# Altium footprint library custom.PcbLib: 6 footprints
Each footprint in its own frame and in the unit in brackets; x right, y up, seen from the top. Pads: shape width x height; smd on the part's side, far side on the other; paste and mask are expansions set on the pad; w line width, h text height; cw(c..) or ccw(c..) is an arc to the next point about the centre after c.
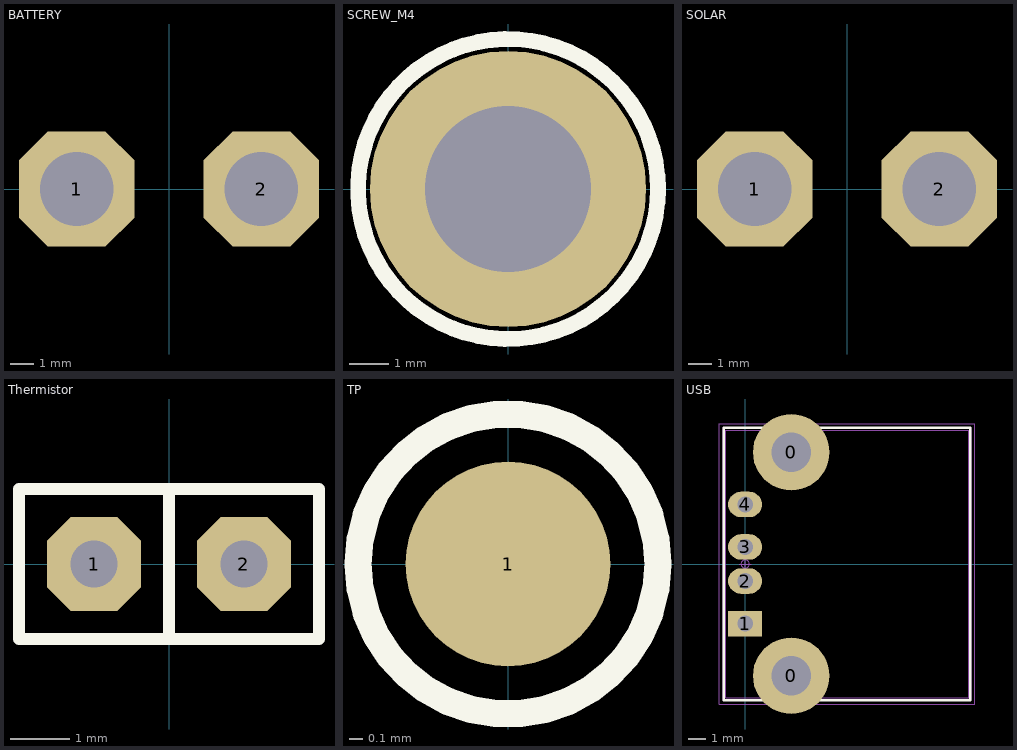
[diagram p0: the footprints below, top view; thin cyan lines are the x and y axes]

## BATTERY [mm]
pads (2):
  oct 5x5 hole 3.2: 1(-4,0) 2(4,0)

## SCREW_M4 [mm]
pads (1):
  round 7 hole 4.2: ""(0,0)
Top Overlay:
  circle w0.4: c0,0 r3.8

## SOLAR [mm]
pads (2):
  oct 5x5 hole 3.2: 1(-4,0) 2(4,0)

## Thermistor [mm]
pads (2):
  oct 1.6x1.6 hole 0.8: 1(-1.27,0) 2(1.27,0)
Top Overlay:
  lines w0.2: 0,-1.27 2.54,-1.27 2.54,1.27 0,1.27 ; 0,-1.27 -2.54,-1.27 -2.54,1.27 0,1.27 ; 0,-1.27 0,1.27

## TP [mm]
pads (1):
  round 1.5 smd: 1(0,0)
Top Overlay:
  circle w0.2: c0,0 r1.1

## USB [mm]
pads (6):
  round 4.5 hole 2.3 paste-1.67: 0(2.71,-6.57) 0(2.71,6.57)
  rect 2x1.5 hole 0.92 paste-1.67: 1(0,-3.5)
  oval 2x1.5 hole 0.92 paste-1.67: 2(0,-1) 3(0,1) 4(0,3.5)
Top Overlay:
  lines w0.15: -1.27,-8 -1.27,8 13.25,8 13.25,-8 -1.27,-8
Mechanical 11:
  lines w0.12: -1.27,-8 -1.27,8 13.25,8 13.25,-8 -1.27,-8
Mechanical 12:
  lines w0.025: -1.15,-7.85 -1.15,7.85 13.15,7.85 13.15,-7.85 -1.15,-7.85 ; -0.15,-3.85 0.15,-3.85 0.15,-3.15 -0.15,-3.15 -0.15,-3.85 ; -0.15,-1.35 0.15,-1.35 0.15,-0.65 -0.15,-0.65 -0.15,-1.35 ; -0.15,0.65 0.15,0.65 0.15,1.35 -0.15,1.35 -0.15,0.65 ; -0.15,3.15 0.15,3.15 0.15,3.85 -0.15,3.85 -0.15,3.15 ; 1.71,-6.82 3.71,-6.82 3.71,-6.52 1.71,-6.52 1.71,-6.82 ; 1.71,6.52 1.71,6.82 3.71,6.82 3.71,6.52 1.71,6.52
Mechanical 15:
  circle w0.05: c0,0 r0.25
  lines w0.05: -0.35,0 0.35,0 ; 0,-0.35 0,0.35 ; -1.52,-8.25 -1.52,8.25 13.5,8.25 13.5,-8.25 -1.52,-8.25
3D body "USBR-A-S-X-X-TH.step": height 7.65, standoff -3.75, extent -1.15,-7.85 13.15,7.85